# EAGLE library part WE-RJ45_10G_7499611420 (library WE-RJ45_10G)
WE-RJ45 10G Transformer Characteristics RJ45 connector with integrated transformer & common mode choke 10G Base-T PoE(+) over 4 pairs Compliant with IEEE standards: 802.3af, 802.3at, 802.3an and 802.3bt Suitable for industrial temperatures: -40°C up to +85°C Applications Office and factory access points Gateways Servers High-speed routers and switches HDBaseT applications <https://www.we-online.com/components/media/o122818v209%20Family_WE-RJ45LAN_10G_7499611420_a.jpg> Details see: www.we-online.com/en/components/products/WE-LAN-RJ45-10G <www.we-online.com/catalog/WE-LAN-RJ45-10G/?utm_source=eagle_model&utm_medium=description_link&utm_campaign=eisos_eagle> Updated By Ella Wu 2026-01-29 2026 (C) Würth Elektronik
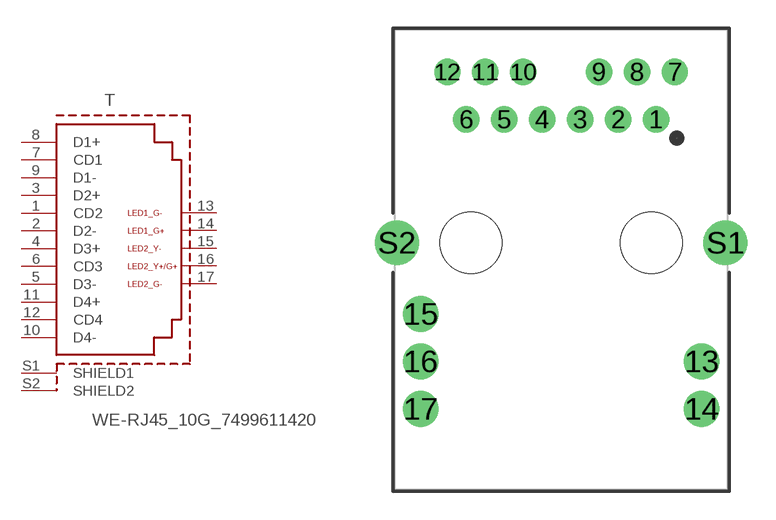
[diagram p5: symbol with the pads of 7499611420; footprint 7499611420]

Designator prefix T

## WE-RJ45_10G_7499611420 (DATA-RATE: 10GBASE-T; DATASHEET-URL: https://www.we-online.com/redexpert/spec/7499611420?ae; IMPROVED-CMRR: No; LED: yellow/green-green; MOUNT: THT; OPERATING-TEMPERATURE: -40 °C up to +85 °C; PART-NUMBER: 7499611420; PHY-CHIP-MODE: current & voltage; POE: non-PoE; PORTS: 1x1; SHIELD-TABS: Yes; TAB: Up; USB: No; VALUE: 7499611420)  [7499611420]
1  CD2
2  D2-
3  D2+
4  D3+
5  D3-
6  CD3
7  CD1
8  D1+
9  D1-
10  D4-
11  D4+
12  CD4
13  LED1_G-
14  LED1_G+
15  LED2_Y-
16  LED2_Y+_G+
17  LED2_G-
S1  SHIELD1  pwr
S2  SHIELD2  pwr

## Footprint 7499611420 (pad centres in mm)
WE-RJ45 10G Transformer 10G Base-T MAX HEIGHT=11.3mm
drill 0.89: 1 5.075,6.6; 2 3.045,6.6; 3 1.015,6.6; 4 -1.015,6.6; 5 -3.045,6.6; 6 -5.075,6.6; 7 6.09,9.14; 8 4.06,9.14; 9 2.03,9.14; 10 -2.03,9.14; 11 -4.06,9.14; 12 -6.09,9.14
drill 1.27: 13 7.52,-6.35; 14 7.52,-8.89; 15 -7.52,-3.81; 16 -7.52,-6.35; 17 -7.52,-8.89
drill 1.57: S1 8.79,0; S2 -8.79,0
hole 3.3 at 4.825,0
hole 3.3 at -4.825,0